# Altium integrated library MCT0603MD1000DP500.IntLib: 1 symbol
Pins are listed as number, name and electrical type; pins without a type are passive.

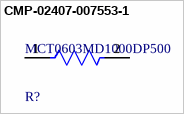
[diagram p0: symbol CMP-02407-007553-1]

## CMP-02407-007553-1
designator R?, comment MCT0603MD1000DP500
RES SMD 100 OHM 1% 1/8W 0603; Power Rating: 125mW; Max Power Dissipation: 150mW; Voltage Rating (DC): 75V; Temperature Coefficient: 25ppm/°C; Resistance: 100R; Tolerance: 0.5%; Features: Automotive AEC-Q200; Package Quantity: 1; Number of Terminations: 2; Weight: 7.1E-05oz; Case Code (Metric): 1608; REACH SVHC: No SVHC; Termination: SMD/SMT; Width: 0.8mm; Length: 0.061inch; Packaging: Tape and Reel; Case/Package: 0603; Height: 0.022inch; Min Operating Temperature: -55°C; Case Code (Imperial): 0603; Max Operating Temperature: 175°C; Voltage Rating: 75V; Composition: Thin Film
footprint FP-MCT0603-IPC_C
footprint FP-MCT0603-IPC_B
footprint FP-MCT0603-IPC_A
footprint FP-MCT0603-MFG
pins: 1, 2